# Altium schematic symbol library SCH - POWER - SWITCHMODE - TI TPS62205_DBV_5.SchLib: 1 symbol
Pins are listed as number, name and electrical type; pins without a type are passive.

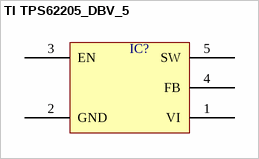
[diagram p0: symbol TI TPS62205_DBV_5]

## TI TPS62205_DBV_5
designator IC?  (value not drawn)
pins: 1 VI, 2 GND, 3 EN, 4 FB, 5 SW